# EAGLE library part PCA24S08 (library i2c_epccs)
1024 x 8-Bit CMOS EEPROM with Access Protection
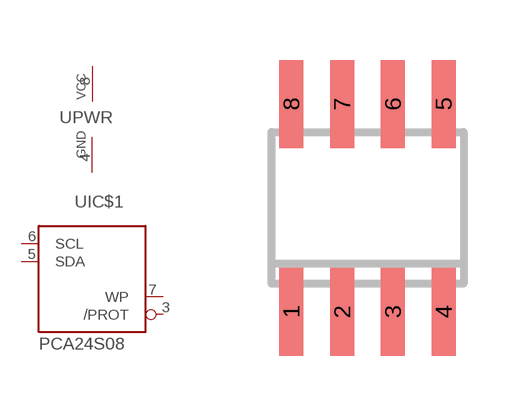
[diagram p10: symbol with the pads of SO08; footprint SO08]

Designator prefix -; gates IC$1=PCA24S08 PWR=PWRN

## PCA24S08  [SO08]
3  IC$1:/PROT  in
4  PWR:GND  pwr
5  IC$1:SDA
6  IC$1:SCL  in
7  IC$1:WP  in
8  PWR:VCC  pwr

## Footprint SO08 (pad centres in mm)
smd 0.6 x 2.2: 1 -1.905,-2.6; 2 -0.635,-2.6; 3 0.635,-2.6; 4 1.905,-2.6; 5 1.905,2.6; 6 0.635,2.6; 7 -0.635,2.6; 8 -1.905,2.6